# Altium schematic symbol library SN74AHC1G00.SchLib: 1 symbol
Pins are listed as number, name and electrical type; pins without a type are passive.

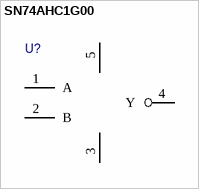
[diagram p0: symbol SN74AHC1G00]

## SN74AHC1G00
designator U?  (value not drawn)
pins: 1 A, 2 B, 3 GND, 4 Y, 5 VCC